# Altium schematic symbol library SCH - DRIVER - LED - TI TLC5958RTQ.SchLib: 1 symbol
Pins are listed as number, name and electrical type; pins without a type are passive.

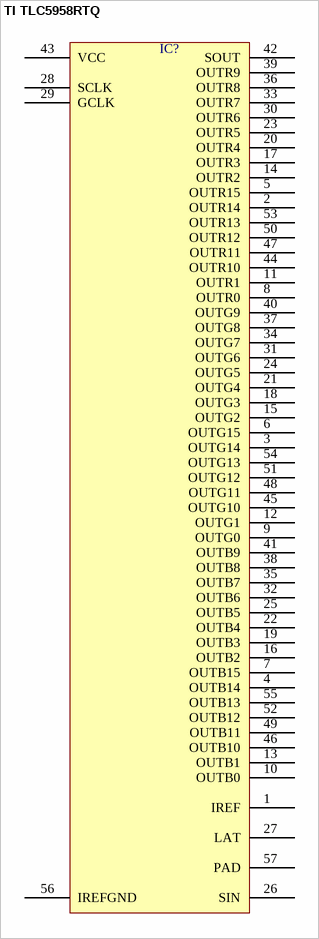
[diagram p0: symbol TI TLC5958RTQ]

## TI TLC5958RTQ
designator IC?  (value not drawn)
pins: 1 IREF, 2 OUTR14, 3 OUTG14, 4 OUTB14, 5 OUTR15, 6 OUTG15, 7 OUTB15, 8 OUTR0, 9 OUTG0, 10 OUTB0, 11 OUTR1, 12 OUTG1, 13 OUTB1, 14 OUTR2, 15 OUTG2, 16 OUTB2, 17 OUTR3, 18 OUTG3, 19 OUTB3, 20 OUTR4, 21 OUTG4, 22 OUTB4, 23 OUTR5, 24 OUTG5, 25 OUTB5, 26 SIN, 27 LAT, 28 SCLK, 29 GCLK, 30 OUTR6, 31 OUTG6, 32 OUTB6, 33 OUTR7, 34 OUTG7, 35 OUTB7, 36 OUTR8, 37 OUTG8, 38 OUTB8, 39 OUTR9, 40 OUTG9, 41 OUTB9, 42 SOUT, 43 VCC, 44 OUTR10, 45 OUTG10, 46 OUTB10, 47 OUTR11, 48 OUTG11, 49 OUTB11, 50 OUTR12, 51 OUTG12, 52 OUTB12, 53 OUTR13, 54 OUTG13, 55 OUTB13, 56 IREFGND, 57 PAD